# Altium footprint library M-LD3320.PcbLib: 1 footprints
Each footprint in its own frame and in the unit in brackets; x right, y up, seen from the top. Pads: shape width x height; smd on the part's side, far side on the other; paste and mask are expansions set on the pad; w line width, h text height; cw(c..) or ccw(c..) is an arc to the next point about the centre after c.
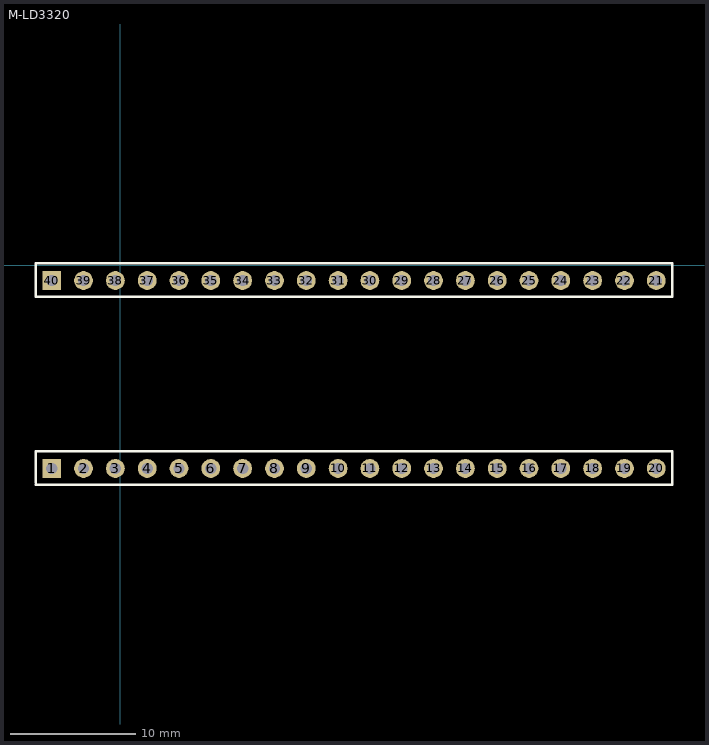
[diagram p0: the footprint, top view; thin cyan lines are the x and y axes]

## M-LD3320 [mm]
pads (40):
  rect 1.5x1.5 hole 0.9: 1(-5.461,-16.239) 40(-5.461,-1.239)
  round 1.5 hole 0.9: 2(-2.921,-16.239) 3(-0.381,-16.239) 4(2.159,-16.239) 5(4.699,-16.239) 6(7.239,-16.239) 7(9.779,-16.239) 8(12.319,-16.239) 9(14.859,-16.239) 10(17.399,-16.239) 11(19.939,-16.239) 12(22.479,-16.239) 13(25.019,-16.239) 14(27.559,-16.239) 15(30.099,-16.239) 16(32.639,-16.239) 17(35.179,-16.239) 18(37.719,-16.239) 19(40.259,-16.239) 20(42.799,-16.239) 21(42.799,-1.239) 22(40.259,-1.239) 23(37.719,-1.239) 24(35.179,-1.239) 25(32.639,-1.239) 26(30.099,-1.239) 27(27.559,-1.239) 28(25.019,-1.239) 29(22.479,-1.239) 30(19.939,-1.239) 31(17.399,-1.239) 32(14.859,-1.239) 33(12.319,-1.239) 34(9.779,-1.239) 35(7.239,-1.239) 36(4.699,-1.239) 37(2.159,-1.239) 38(-0.381,-1.239) 39(-2.921,-1.239)
Top Overlay:
  lines w0.2: -6.731,-17.526 44.069,-17.526 44.069,-14.986 ; -6.731,-17.399 -6.731,-14.859 -4.826,-14.859 44.069,-14.859 ; -6.731,-2.54 44.069,-2.54 44.069,0.127 -4.572,0.127 -6.731,0.127 -6.731,-2.54